# Altium schematic symbol library MAX16832AASA+.SchLib: 1 symbol
Pins are listed as number, name and electrical type; pins without a type are passive.

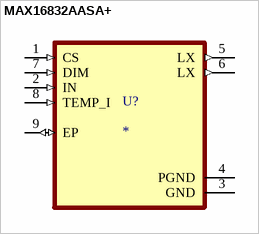
[diagram p0: symbol MAX16832AASA+]

## MAX16832AASA+
designator U?
LED Driver IC 1 Output DC DC Regulator Step-Down (Buck) PWM Dimming 700mA 8-SOIC-EP; MP: MAX16832AASA+T; MF: Maxim Integrated; Price: None; Package: SOIC-8 Maxim; Purchase-URL: https://pricing.snapeda.com/search/part/MAX16832AASA+T/?ref=eda; Availability: Warning; SnapEDA_Link: https://www.snapeda.com/parts/MAX16832AASA+T/Maxim%20Integrated/view-part/334254/?ref=snap; Check_prices: https://www.snapeda.com/parts/MAX16832AASA+T/Maxim%20Integrated/view-part/334254/?ref=eda; Value: *
footprint SOIC127P600X168-9N
pins: 1 CS (in), 2 IN (in), 3 GND (power), 4 PGND (power), 5 LX (out), 6 LX (out), 7 DIM (in), 8 TEMP_I (in), 9 EP (io)